# Altium schematic symbol library ASCODV-24.000MHz-LR-T3.SchLib: 1 symbol
Pins are listed as number, name and electrical type; pins without a type are passive.

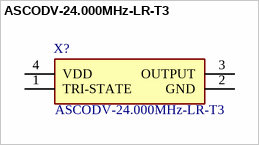
[diagram p0: symbol ASCODV-24.000MHz-LR-T3]

## ASCODV-24.000MHz-LR-T3
designator X?
CONTINUOUS VOLTAGE SMD CRYSTAL OSCILLATOR; Manufacturer_Name: ABRACON; Geometry.Height: 0.8mm; Mouser Part Number: 815-ASCODV-24.00LRT3; Mouser Price/Stock: https://www.mouser.co.uk/ProductDetail/ABRACON/ASCODV-24.000MHz-LR-T3?qs=ulEaXIWI0c%2FIRLeg8YCLgQ%3D%3D; Manufacturer_Part_Number: ASCODV-24.000MHz-LR-T3; Datasheet Link: https://abracon.com/datasheets/ASCODV.pdf; Supplier 1: Digikey; Supplier Part Number 1: 535-ASCODV-24.000MHZ-LR-T3CT-ND
footprint ASCODV24000MHzLRT3
pins: 1 TRI-STATE, 2 GND, 3 OUTPUT, 4 VDD